# EAGLE library part LE25FU406B (library psas_c3_team05)
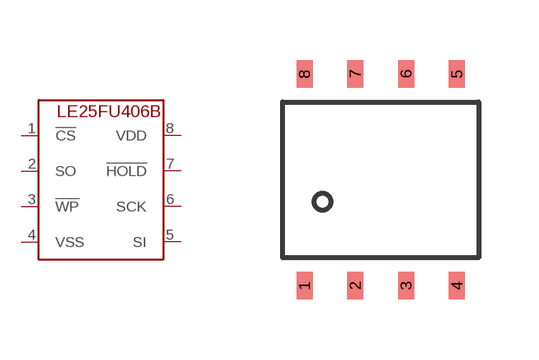
[diagram p13: symbol with the pads of LE25FU406B; footprint LE25FU406B]

Designator prefix -

## LE25FU406B  [LE25FU406B]
1  !CS
2  SO
3  !WP
4  VSS
5  SI
6  SCK
7  !HOLD
8  VDD

## Footprint LE25FU406B (pad centres in mm)
smd 0.4 x 0.7: 1 0.55,-4.6; 2 1.82,-4.6; 3 3.09,-4.6; 4 4.36,-4.6; 5 4.36,0.7; 6 3.09,0.7; 7 1.82,0.7; 8 0.55,0.7